# Altium footprint library 7466003 Screw Conn.PcbLib: 1 footprints
Each footprint in its own frame and in the unit in brackets; x right, y up, seen from the top. Pads: shape width x height; smd on the part's side, far side on the other; paste and mask are expansions set on the pad; w line width, h text height; cw(c..) or ccw(c..) is an arc to the next point about the centre after c.
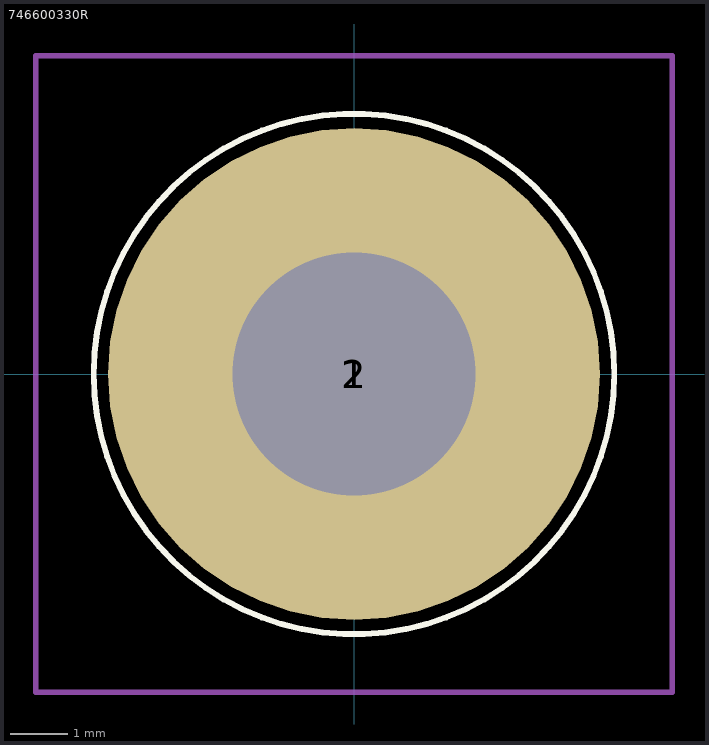
[diagram p0: the footprint, top view; thin cyan lines are the x and y axes]

## 746600330R [mm]
pads (2):
  round 8.5 smd: 1(0,0)
  round 2.1 hole 4.2 unplated: 2(0,0)
Top Overlay:
  lines w0.1: -4.5,0 cw(c0,0) 4.5,0 cw(c0,0) -4.5,0
Mechanical 13:
  lines w0.2: -3.5,0 cw(c0,0) 3.5,0 cw(c0,0) -3.5,0
Mechanical 15:
  lines w0.1: -5.5,-5.5 -5.5,5.5 5.5,5.5 5.5,-5.5 -5.5,-5.5
3D body "746600330R.stp": height 4.1, standoff -1.7, extent -3.5,-3.5 3.5,3.5